# Altium footprint library PcbLib1.PcbLib: 38 footprints (part 3 of 3)
Each footprint in its own frame and in the unit in brackets; x right, y up, seen from the top. Pads: shape width x height; smd on the part's side, far side on the other; paste and mask are expansions set on the pad; w line width, h text height; cw(c..) or ccw(c..) is an arc to the next point about the centre after c.
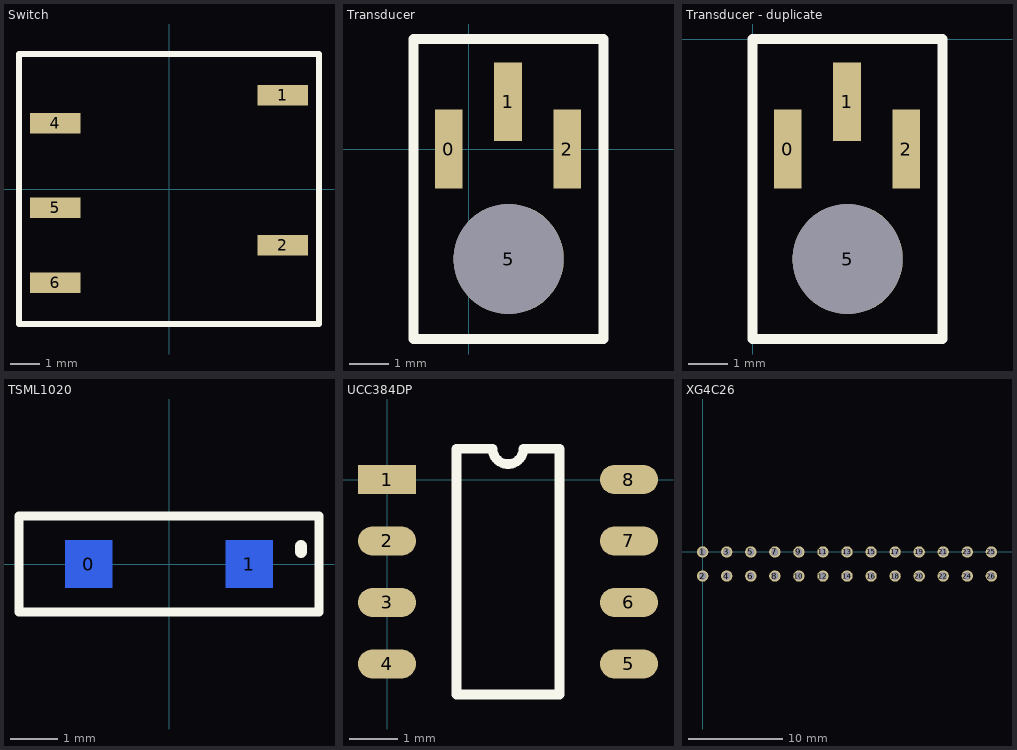
[diagram p2: the footprints below, top view; thin cyan lines are the x and y axes]

## Switch [mm]
pads (5):
  rect 1.7x0.7 smd: 1(3.85,3.175) 2(3.85,-1.905) 4(-3.85,2.222) 5(-3.85,-0.635) 6(-3.85,-3.175)
Top Overlay:
  lines w0.2: -5.08,-4.572 5.08,-4.572 5.08,4.572 -5.08,4.572 -5.08,-4.572

## Transducer [mm]
pads (4):
  rect 0.7x2 smd: 0(-0.5,0) 1(1,1.2) 2(2.5,0)
  round 2.8 hole 2.8: 5(1.016,-2.794)
Top Overlay:
  lines w0.254: -1.397,-4.826 3.429,-4.826 3.429,2.794 -1.397,2.794 -1.397,-4.826

## Transducer - duplicate [mm]
pads (4):
  rect 0.7x2 smd: 0(0.897,-2.794) 1(2.397,-1.594) 2(3.897,-2.794)
  round 2.8 hole 2.8: 5(2.413,-5.588)
Top Overlay:
  lines w0.254: 0,-7.62 4.826,-7.62 4.826,0 0,0 0,-7.62

## TSML1020 [mm]
pads (2):
  rect 1x1 smd far side: 0(-1.7,0) 1(1.7,0)
Top Overlay:
  lines w0.2: -3.175,-1.016 3.175,-1.016 3.175,1.016 -3.175,1.016 -3.175,-1.016
  lines w0.254: 2.794,0.254 2.794,0.381

## UCC384DP [mm]
pads (8):
  rect 1.2x0.6 smd: 1(0,0)
  oval 1.2x0.6 smd: 2(0,-1.27) 3(0,-2.54) 4(0,-3.81) 5(5,-3.81) 6(5,-2.54) 7(5,-1.27) 8(5,0)
Top Overlay:
  lines w0.2: 1.435,-4.445 3.565,-4.445 3.565,0.635 2.818,0.635 cw(c2.5,0.635) 2.183,0.635 1.435,0.635 1.435,-4.445

## XG4C26 [mm]
pads (26):
  round 1.2 hole 0.8: 1(0,0) 2(0,-2.54) 3(2.54,0) 4(2.54,-2.54) 5(5.08,0) 6(5.08,-2.54) 7(7.62,0) 8(7.62,-2.54) 9(10.16,0) 10(10.16,-2.54) 11(12.7,0) 12(12.7,-2.54) 13(15.24,0) 14(15.24,-2.54) 15(17.78,0) 16(17.78,-2.54) 17(20.32,0) 18(20.32,-2.54) 19(22.86,0) 20(22.86,-2.54) 21(25.4,0) 22(25.4,-2.54) 23(27.94,0) 24(27.94,-2.54) 25(30.48,0) 26(30.48,-2.54)